# Altium schematic symbol library Schlib_Phoenix_Contact.SchLib: 12 symbols
Pins are listed as number, name and electrical type; pins without a type are passive.

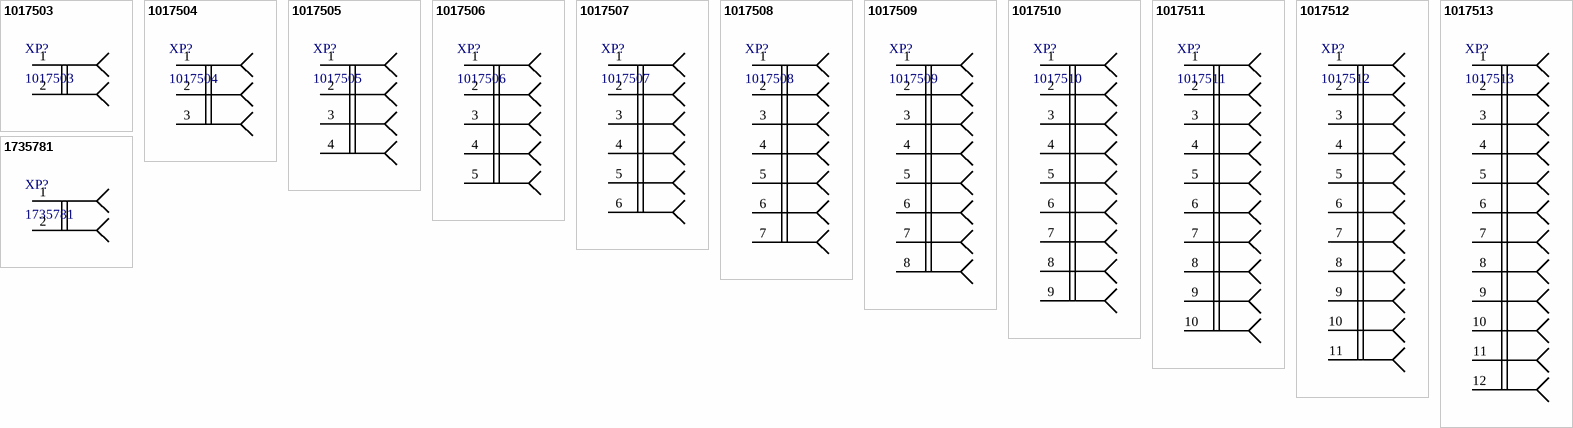
[diagram p0: symbols 1017503 to 1735781]

## 1017503
designator XP?
Terminal Blocks 2P side entry 5.08mm PCB; Manufacturer: Phoenix Contact; Current: 32A; Voltage: 400V; PartNumber: 1017503
footprint 1017503
pins: 1, 2

## 1017504
designator XP?
Terminal Blocks 2P side entry 5.08mm PCB; Manufacturer: Phoenix Contact; Current: 32A; Voltage: 400V; PartNumber: 1017504
footprint 1017504
pins: 1, 2, 3

## 1017505
designator XP?
Terminal Blocks 2P side entry 5.08mm PCB; Manufacturer: Phoenix Contact; Current: 32A; Voltage: 400V; PartNumber: 1017505
footprint 1017505
pins: 1, 2, 3, 4

## 1017506
designator XP?
Terminal Blocks 2P side entry 5.08mm PCB; Manufacturer: Phoenix Contact; Current: 32A; Voltage: 400V; PartNumber: 1017506
footprint 1017506
pins: 1, 2, 3, 4, 5

## 1017507
designator XP?
Terminal Blocks 2P side entry 5.08mm PCB; Manufacturer: Phoenix Contact; Current: 32A; Voltage: 400V; PartNumber: 1017507
footprint 1017507
pins: 1, 2, 3, 4, 5, 6

## 1017508
designator XP?
Terminal Blocks 2P side entry 5.08mm PCB; Manufacturer: Phoenix Contact; Current: 32A; Voltage: 400V; PartNumber: 1017508
footprint 1017508
pins: 1, 2, 3, 4, 5, 6, 7

## 1017509
designator XP?
Terminal Blocks 2P side entry 5.08mm PCB; Manufacturer: Phoenix Contact; Current: 32A; Voltage: 400V; PartNumber: 1017509
footprint 1017509
pins: 1, 2, 3, 4, 5, 6, 7, 8

## 1017510
designator XP?
Terminal Blocks 2P side entry 5.08mm PCB; Manufacturer: Phoenix Contact; Current: 32A; Voltage: 400V; PartNumber: 1017510
footprint 1017510
pins: 1, 2, 3, 4, 5, 6, 7, 8, 9

## 1017511
designator XP?
Terminal Blocks 2P side entry 5.08mm PCB; Manufacturer: Phoenix Contact; Current: 32A; Voltage: 400V; PartNumber: 1017511
footprint 1017511
pins: 1, 2, 3, 4, 5, 6, 7, 8, 9, 10

## 1017512
designator XP?
Terminal Blocks 2P side entry 5.08mm PCB; Manufacturer: Phoenix Contact; Current: 32A; Voltage: 400V; PartNumber: 1017512
footprint 1017512
pins: 1, 2, 3, 4, 5, 6, 7, 8, 9, 10, 11

## 1017513
designator XP?
Terminal Blocks 2P side entry 5.08mm PCB; Manufacturer: Phoenix Contact; Current: 32A; Voltage: 400V; PartNumber: 1017513
footprint 1017513
pins: 1, 2, 3, 4, 5, 6, 7, 8, 9, 10, 11, 12

## 1735781
designator XP?
Terminal Blocks 2P side entry 10mm PCB; Current: 66A; Voltage: 600V; PartNumber: 1735781
footprint 1735781
pins: 1, 2